# Altium schematic symbol library 2SC3838K.Schlib: 1 symbol
Pins are listed as number, name and electrical type; pins without a type are passive.

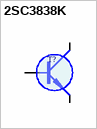
[diagram p0: symbol 2SC3838K]

## 2SC3838K
designator T?
SOT23     11V 50mA     3.2G 0.8p
pins: 1 B, 2 E (oe), 3 C (oc)
1 alternate drawing of the same symbol